# EAGLE library part UC3845BD1 (library parts)
UC3845BD1, PWM Current Mode Controller, 1 A Boost, Flyback, 500 kHz 8-Pin SOIC Source: Datasheet <http://docs-emea.rs-online.com/webdocs/0ed2/0900766b80ed226c.pdf>
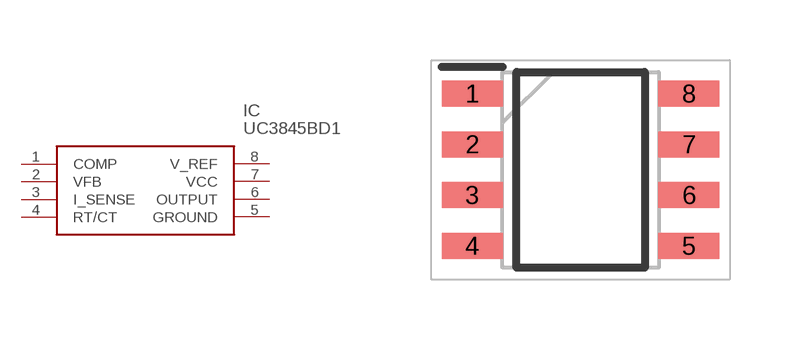
[diagram p4: symbol with the pads of SOIC127P600X175-8N; footprint SOIC127P600X175-8N]

Designator prefix IC

## UC3845BD1 (ALLIED_NUMBER: 70391940; ALLIED_PRICE-STOCK: http://www.alliedelec.com/stmicroelectronics-uc3845bd1/70391940/; DESCRIPTION: UC3845BD1, PWM Current Mode Controller, 1 A Boost, Flyback, 500 kHz 8-Pin SOIC; HEIGHT: 1.75mm; MANUFACTURER_NAME: STMicroelectronics; MANUFACTURER_PART_NUMBER: UC3845BD1; MOUSER_PART_NUMBER: 511-UC3845BD1; MOUSER_PRICE-STOCK: https://www.mouser.com/Search/Refine.aspx?Keyword=511-UC3845BD1; RS_PART_NUMBER: 1687316; RS_PRICE-STOCK: http://uk.rs-online.com/web/p/products/1687316)  [SOIC127P600X175-8N]
1  COMP  out
2  VFB  in
3  I_SENSE  in
4  RT/CT  in
5  GROUND  pwr
6  OUTPUT  out
7  VCC  pwr
8  V_REF  out

## Footprint SOIC127P600X175-8N (pad centres in mm)
D (R-PDSO-G8)
smd 1.525 x 0.65: 1 -2.712,1.905; 2 -2.712,0.635; 3 -2.712,-0.635; 4 -2.712,-1.905; 5 2.712,-1.905; 6 2.712,-0.635; 7 2.712,0.635; 8 2.712,1.905